# EAGLE library part MAX3490E (library greg-IC)
Maxim MAX3490 RS-485/RS-422 Transceiver Devices in the MAX3483E family (MAX3483E/MAX3485E/ MAX3486E/MAX3488E/MAX3490E/MAX3491E) are ±15kV ESD-protected, +3.3V, low-power transceivers for RS-485 and RS-422 communications. Each device contains one driver and one receiver. The MAX3483E and MAX3488E feature slew-rate-limited drivers that minimize EMI and reduce reflections caused by improperly terminated cables, allowing error-free data transmission at data rates up to 250kbps. The partially slew-rate-limited MAX3486E transmits up to 2.5Mbps. The MAX3485E, MAX3490E, and MAX3491E transmit at up to 12Mbps.
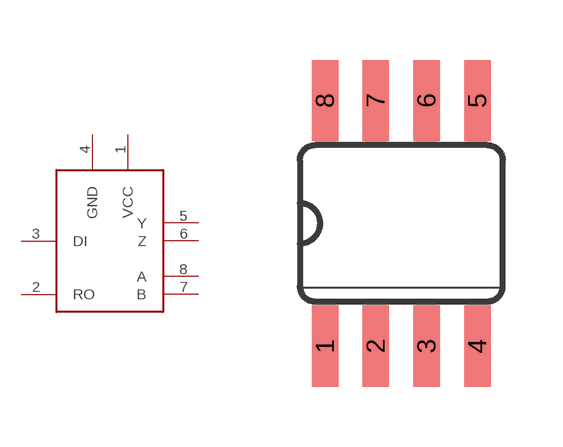
[diagram p4: symbol with the pads of SOIC8; footprint SOIC8]

Designator prefix -

## MAX3490ESA  [SOIC8]
1  VCC  pwr
2  RO  out
3  DI  in
4  GND  pwr
5  Y  out
6  Z  out
7  B  in
8  A  in

## Footprint SOIC8 (pad centres in mm)
smd 0.66 x 2.032: 1 -1.905,-3.073; 2 -0.635,-3.073; 3 0.635,-3.073; 4 1.905,-3.073; 5 1.905,3.073; 6 0.635,3.073; 7 -0.635,3.073; 8 -1.905,3.073